# EAGLE library part XC9536XL-VQ64 (library XC9500XLneu)
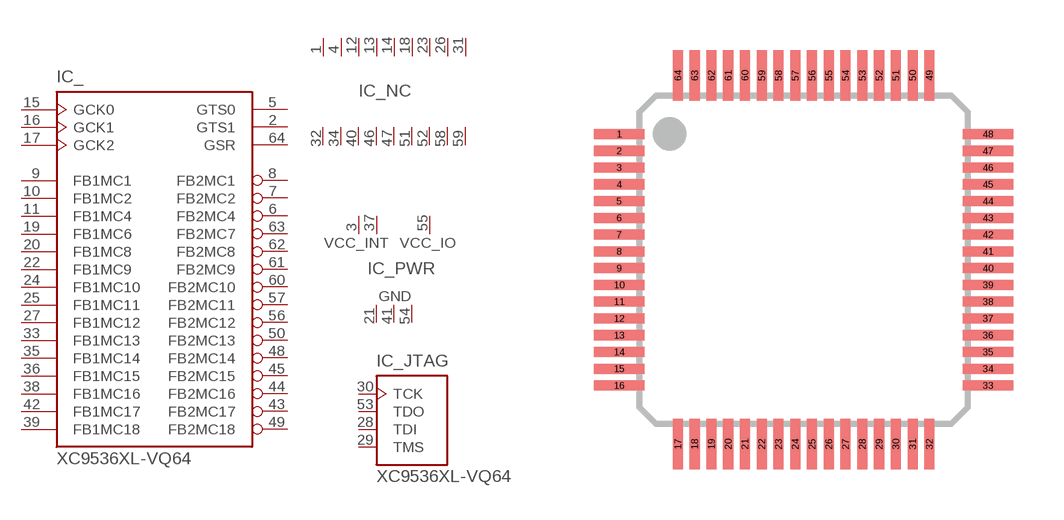
[diagram p3: symbol with the pads of VQ64; footprint VQ64]

Designator prefix IC; gates _=XC9536XL-VQ64 _NC=XC9536XL-VQ64_NC _PWR=XC9536XL_PWR _JTAG=JTAG

## XC9536XL-VQ64  [VQ64]
1  _NC:NC  pwr
2  _:GTS1  in
3  _PWR:VCC_INT  pwr
4  _NC:NC  pwr
5  _:GTS0  in
6  _:FB2MC4
7  _:FB2MC2
8  _:FB2MC1
9  _:FB1MC1
10  _:FB1MC2
11  _:FB1MC4
12  _NC:NC  pwr
13  _NC:NC  pwr
14  _NC:NC  pwr
15  _:GCK0  in
16  _:GCK1  in
17  _:GCK2  in
18  _NC:NC  pwr
19  _:FB1MC6
20  _:FB1MC8
21  _PWR:GND  pwr
22  _:FB1MC9
23  _NC:NC  pwr
24  _:FB1MC10
25  _:FB1MC11
26  _NC:NC  pwr
27  _:FB1MC12
28  _JTAG:TDI  in
29  _JTAG:TMS  in
30  _JTAG:TCK  in
31  _NC:NC  pwr
32  _NC:NC  pwr
33  _:FB1MC13
34  _NC:NC  pwr
35  _:FB1MC14
36  _:FB1MC15
37  _PWR:VCC_INT  pwr
38  _:FB1MC16
39  _:FB1MC18
40  _NC:NC  pwr
41  _PWR:GND  pwr
42  _:FB1MC17
43  _:FB2MC17
44  _:FB2MC16
45  _:FB2MC15
46  _NC:NC  pwr
47  _NC:NC  pwr
48  _:FB2MC14
49  _:FB2MC18
50  _:FB2MC13
51  _NC:NC  pwr
52  _NC:NC  pwr
53  _JTAG:TDO  out
54  _PWR:GND  pwr
55  _PWR:VCC_IO  pwr
56  _:FB2MC12
57  _:FB2MC11
58  _NC:NC  pwr
59  _NC:NC  pwr
60  _:FB2MC10
61  _:FB2MC9
62  _:FB2MC8
63  _:FB2MC7
64  _:GSR  in

## Footprint VQ64 (pad centres in mm)
smd 1.5 x 0.3: 1 -5.5,3.75; 2 -5.5,3.25; 3 -5.5,2.75; 4 -5.5,2.25; 5 -5.5,1.75; 6 -5.5,1.25; 7 -5.5,0.75; 8 -5.5,0.25; 9 -5.5,-0.25; 10 -5.5,-0.75; 11 -5.5,-1.25; 12 -5.5,-1.75; 13 -5.5,-2.25; 14 -5.5,-2.75; 15 -5.5,-3.25; 16 -5.5,-3.75; 33 5.5,-3.75; 34 5.5,-3.25; 35 5.5,-2.75; 36 5.5,-2.25; 37 5.5,-1.75; 38 5.5,-1.25; 39 5.5,-0.75; 40 5.5,-0.25; 41 5.5,0.25; 42 5.5,0.75; 43 5.5,1.25; 44 5.5,1.75; 45 5.5,2.25; 46 5.5,2.75; 47 5.5,3.25; 48 5.5,3.75
smd 0.3 x 1.5: 17 -3.75,-5.5; 18 -3.25,-5.5; 19 -2.75,-5.5; 20 -2.25,-5.5; 21 -1.75,-5.5; 22 -1.25,-5.5; 23 -0.75,-5.5; 24 -0.25,-5.5; 25 0.25,-5.5; 26 0.75,-5.5; 27 1.25,-5.5; 28 1.75,-5.5; 29 2.25,-5.5; 30 2.75,-5.5; 31 3.25,-5.5; 32 3.75,-5.5; 49 3.75,5.5; 50 3.25,5.5; 51 2.75,5.5; 52 2.25,5.5; 53 1.75,5.5; 54 1.25,5.5; 55 0.75,5.5; 56 0.25,5.5; 57 -0.25,5.5; 58 -0.75,5.5; 59 -1.25,5.5; 60 -1.75,5.5; 61 -2.25,5.5; 62 -2.75,5.5; 63 -3.25,5.5; 64 -3.75,5.5